# Altium footprint library TELEM_REVISED.PcbLib: 8 footprints
Each footprint in its own frame and in the unit in brackets; x right, y up, seen from the top. Pads: shape width x height; smd on the part's side, far side on the other; paste and mask are expansions set on the pad; w line width, h text height; cw(c..) or ccw(c..) is an arc to the next point about the centre after c.
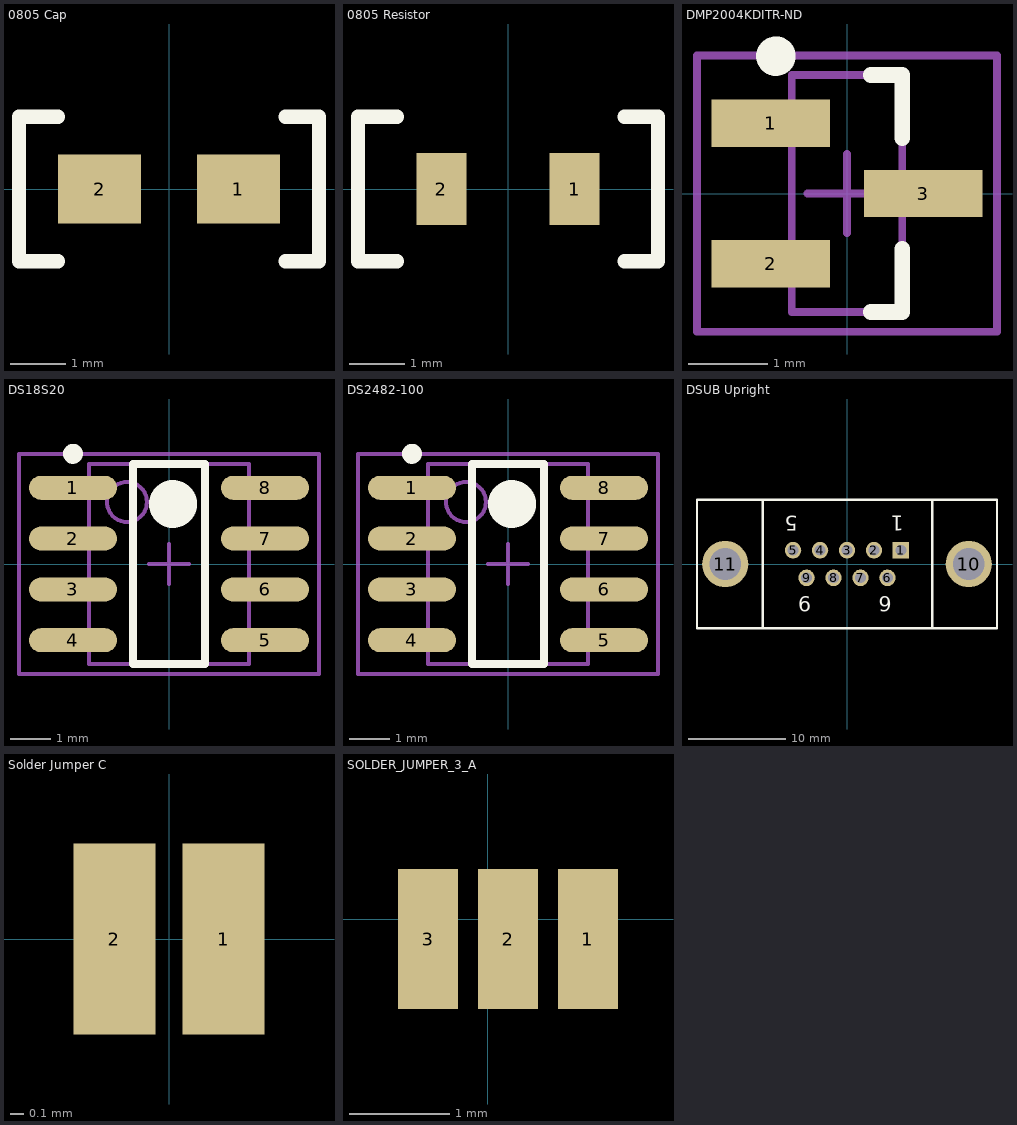
[diagram p0: the footprints below, top view; thin cyan lines are the x and y axes]

## 0805 Cap [mm] "0805 Capacitor"
pads (2):
  rect 1.5x1.25 smd: 1(1.25,0) 2(-1.25,0)
Top Overlay:
  lines w0.254: -2,-1.3 -2.7,-1.3 -2.7,1.3 -2,1.3 ; 2.1,-1.3 2.7,-1.3 2.7,1.3 2.1,1.3
3D body: height 0.9, standoff 0, extent -1,-0.625 1.1,0.625

## 0805 Resistor [mm] "0805 Resistor"
pads (2):
  rect 0.9x1.3 smd: 1(1.2,0) 2(-1.2,0)
Top Overlay:
  lines w0.254: -2,-1.3 -2.7,-1.3 -2.7,1.3 -2,1.3 ; 2.1,-1.3 2.7,-1.3 2.7,1.3 2.1,1.3
3D body: height 0.6, standoff 0, extent -1,-0.625 1.1,0.625

## DMP2004KDITR-ND [mm] "SOT23, 3-Leads, Body 3.0x2.5mm (max), Pitch 0.89mm, IPC Medium Density"
height 1.2
pads (3):
  rect 1.5x0.6 smd: 1(-0.964,0.89) 2(-0.964,-0.89) 3(0.963,0)
Top Overlay:
  circle w0.25: c-0.9,1.74 r0.125
  lines w0.2: 0.3,-1.5 0.7,-1.5 0.7,-0.7 ; 0.3,1.5 0.7,1.5 0.7,0.7
Mechanical 13:
  lines w0.1: -0.7,-1.5 0.7,-1.5 0.7,1.5 -0.7,1.5 -0.7,-1.5
Mechanical 15:
  lines w0.1: -0.5,0 0.5,0 ; 0,-0.5 0,0.5 ; -1.9,-1.75 1.9,-1.75 1.9,1.75 -1.9,1.75 -1.9,-1.75
3D body: height 1.2, standoff 0.01, extent -0.7,-1.5 0.7,1.5

## DS18S20 [mm] "SOIC, 8-Leads, Body 5.0x4.0mm (max), Pitch 1.27mm, IPC Medium Density"
height 1.75
pads (8):
  oval 2.2x0.6 smd: 1(-2.4,1.905) 2(-2.4,0.635) 3(-2.4,-0.635) 4(-2.4,-1.905) 5(2.4,-1.905) 6(2.4,-0.635) 7(2.4,0.635) 8(2.4,1.905)
Top Overlay:
  circle w0.6: c0.1,1.5 r0.3
  circle w0.25: c-2.4,2.755 r0.125
  lines w0.2: -0.9,-2.5 0.9,-2.5 0.9,2.5 -0.9,2.5 -0.9,-2.5
Mechanical 13:
  circle w0.1: c-1.05,1.55 r0.5
  lines w0.1: -2,-2.5 2,-2.5 2,2.5 -2,2.5 -2,-2.5
Mechanical 15:
  lines w0.1: -0.5,0 0.5,0 ; 0,-0.5 0,0.5 ; -3.75,-2.75 3.75,-2.75 3.75,2.75 -3.75,2.75 -3.75,-2.75
3D body: height 1.75, standoff 0.1, extent -2,-2.5 2,2.5

## DS2482-100 [mm] "SOIC, 8-Leads, Body 5.0x4.0mm (max), Pitch 1.27mm, IPC Medium Density"
height 1.75
pads (8):
  oval 2.2x0.6 smd: 1(-2.4,1.905) 2(-2.4,0.635) 3(-2.4,-0.635) 4(-2.4,-1.905) 5(2.4,-1.905) 6(2.4,-0.635) 7(2.4,0.635) 8(2.4,1.905)
Top Overlay:
  circle w0.25: c-2.4,2.755 r0.125
  circle w0.6: c0.1,1.5 r0.3
  lines w0.2: -0.9,-2.5 -0.9,2.5 0.9,2.5 0.9,-2.5 -0.9,-2.5
Mechanical 13:
  circle w0.1: c-1.05,1.55 r0.5
  lines w0.1: -2,-2.5 -2,2.5 2,2.5 2,-2.5 -2,-2.5
Mechanical 15:
  lines w0.1: -0.5,0 0.5,0 ; 0,-0.5 0,0.5 ; -3.75,-2.75 -3.75,2.75 3.75,2.75 3.75,-2.75 -3.75,-2.75
3D body: height 1.75, standoff 0.1, extent -2,-2.5 2,2.5

## DSUB Upright [mm] "171-009-213R911"
pads (11):
  rect 1.69x1.69 hole 1.09: 1(5.54,1.42)
  round 1.69 hole 1.09: 2(2.77,1.42) 3(0,1.42) 4(-2.77,1.42) 5(-5.54,1.42) 6(4.153,-1.42) 7(1.384,-1.42) 8(-1.384,-1.42) 9(-4.153,-1.42)
  round 4.76 hole 3.26: 10(12.5,0) 11(-12.5,0)
Top Overlay:
  lines w0.254: -8.636,-6.6 -8.636,6.604 ; 8.763,-6.6 8.763,6.6 ; -15.4,-6.6 15.4,-6.6 15.4,6.6 -15.4,6.6 -15.4,-6.6
  text "1" at 5.842,4.953 h1.52
  text "5" at -5.08,4.953 h1.52
  text "6" at 4.572,-3.302 h1.52
  text "9" at -3.683,-3.302 h1.52

## Solder Jumper C [mm] "Solder Jumper C"
pads (2):
  rect 0.6x1.4 smd: 1(0.4,0) 2(-0.4,0)
Top Solder:
  region: -0.8,0.8 -0.8,-0.8 0.8,-0.8 0.8,0.8

## SOLDER_JUMPER_3_A [mm]
pads (3):
  rect 0.6x1.4 smd: 1(1,-0.2) 2(0.2,-0.2) 3(-0.6,-0.2)
Top Solder:
  region: -1,0.6 -1,-1 1.4,-1 1.4,0.6